# Altium footprint library 24LC256.PcbLib: 3 footprints
Each footprint in its own frame and in the unit in brackets; x right, y up, seen from the top. Pads: shape width x height; smd on the part's side, far side on the other; paste and mask are expansions set on the pad; w line width, h text height; cw(c..) or ccw(c..) is an arc to the next point about the centre after c.
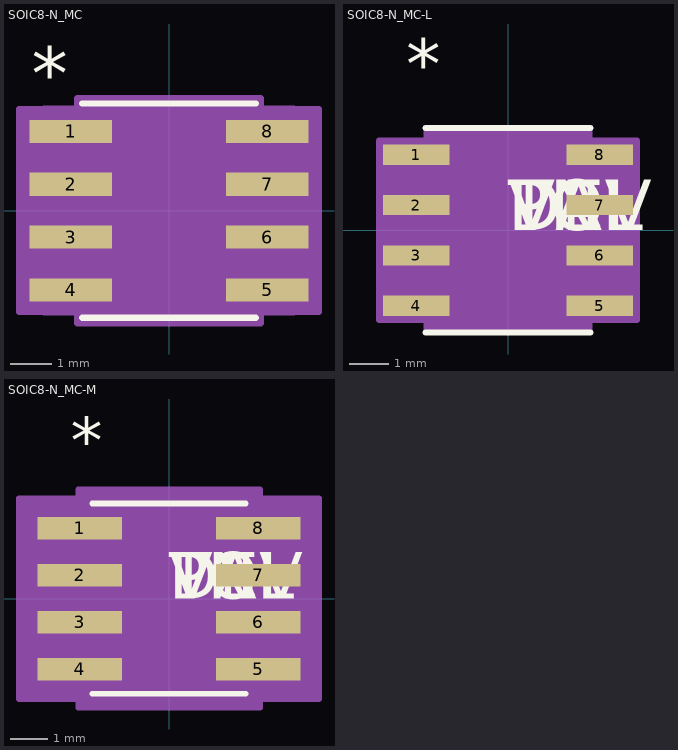
[diagram p0: the footprints below, top view; thin cyan lines are the x and y axes]

## SOIC8-N_MC [mil]
pads (8):
  rect 78x22 smd: 1(-93,75) 2(-93,25) 3(-93,-25) 4(-93,-75) 5(93,-75) 6(93,-25) 7(93,25) 8(93,75)
Top Overlay:
  lines w6: -82,-101.5 82,-101.5 ; -82,101.5 82,101.5
  text "*" at -130,105 h50
Mechanical 13:
  lines w0: -12,96.5 ccw(c0,96.5) 12,96.5
Mechanical 15:
  region: -87,-96 -142,-96 -142,96 -87,96 -87,106.5 87,106.5 87,96 142,96 142,-96 87,-96 87,-106.5 -87,-106.5
  lines w6: -142,-96 -87,-96 -87,-106.5 87,-106.5 87,-96 142,-96 142,96 87,96 87,106.5 -87,106.5 -87,96 -142,96 -142,-96
Mechanical 29:
  lines w5.91: -118.1,96.45 -118.1,-96.46 118.12,-96.46 118.12,96.45 -116.65,96.45
  text ".Designator" at -70,-10 h30
3D body "User Library-SOIC-8-1.STEP": height 68.9, standoff 0, extent -118.1,-96.46 118.12,96.45

## SOIC8-N_MC-L [mil]
pads (8):
  rect 66x20 smd: 1(-91,75) 2(-91,25) 3(-91,-25) 4(-91,-75) 5(91,-75) 6(91,-25) 7(91,25) 8(91,75)
Top Overlay:
  lines w6: -82,-101.5 82,-101.5 ; -82,101.5 82,101.5
  text "*" at -101,140 h50
  text "PN" at 0,0 h50
  text "DEV" at 0,0 h50
  text "VAL" at 0,0 h50
  text "TOL" at 0,0 h50
Mechanical 13:
  lines w0: -12,96.5 ccw(c0,96.5) 12,96.5
  text "*" at -62,93.5 h50
  text "RefDes2" at 0,0 h50
Mechanical 15:
  region: -81,-89 -128,-89 -128,89 -81,89 -81,100.5 81,100.5 81,89 128,89 128,-89 81,-89 81,-100.5 -81,-100.5
  lines w6: -128,-89 -128,89 -81,89 -81,100.5 81,100.5 81,89 128,89 128,-89 81,-89 81,-100.5 -81,-100.5 -81,-89 -128,-89
3D body: height 10, standoff 0, extent 0,0 10,10

## SOIC8-N_MC-M [mil]
pads (8):
  rect 90x24 smd: 1(-95,75) 2(-95,25) 3(-95,-25) 4(-95,-75) 5(95,-75) 6(95,-25) 7(95,25) 8(95,75)
Top Overlay:
  lines w6: -82,-101.5 82,-101.5 ; -82,101.5 82,101.5
  text "*" at -105,144 h50
  text "PN" at 0,0 h50
  text "DEV" at 0,0 h50
  text "VAL" at 0,0 h50
  text "TOL" at 0,0 h50
Mechanical 13:
  lines w0: -12,96.5 ccw(c0,96.5) 12,96.5
  text "*" at -62,93.5 h50
  text "RefDes2" at 0,0 h50
Mechanical 15:
  region: -97,-107 -160,-107 -160,107 -97,107 -97,116.5 97,116.5 97,107 160,107 160,-107 97,-107 97,-116.5 -97,-116.5
  lines w6: -160,-107 -160,107 -97,107 -97,116.5 97,116.5 97,107 160,107 160,-107 97,-107 97,-116.5 -97,-116.5 -97,-107 -160,-107
3D body: height 10, standoff 0, extent 0,0 10,10